# Altium schematic symbol library PowerSupplyGOST.SchLib: 11 symbols
Pins are listed as number, name and electrical type; pins without a type are passive.

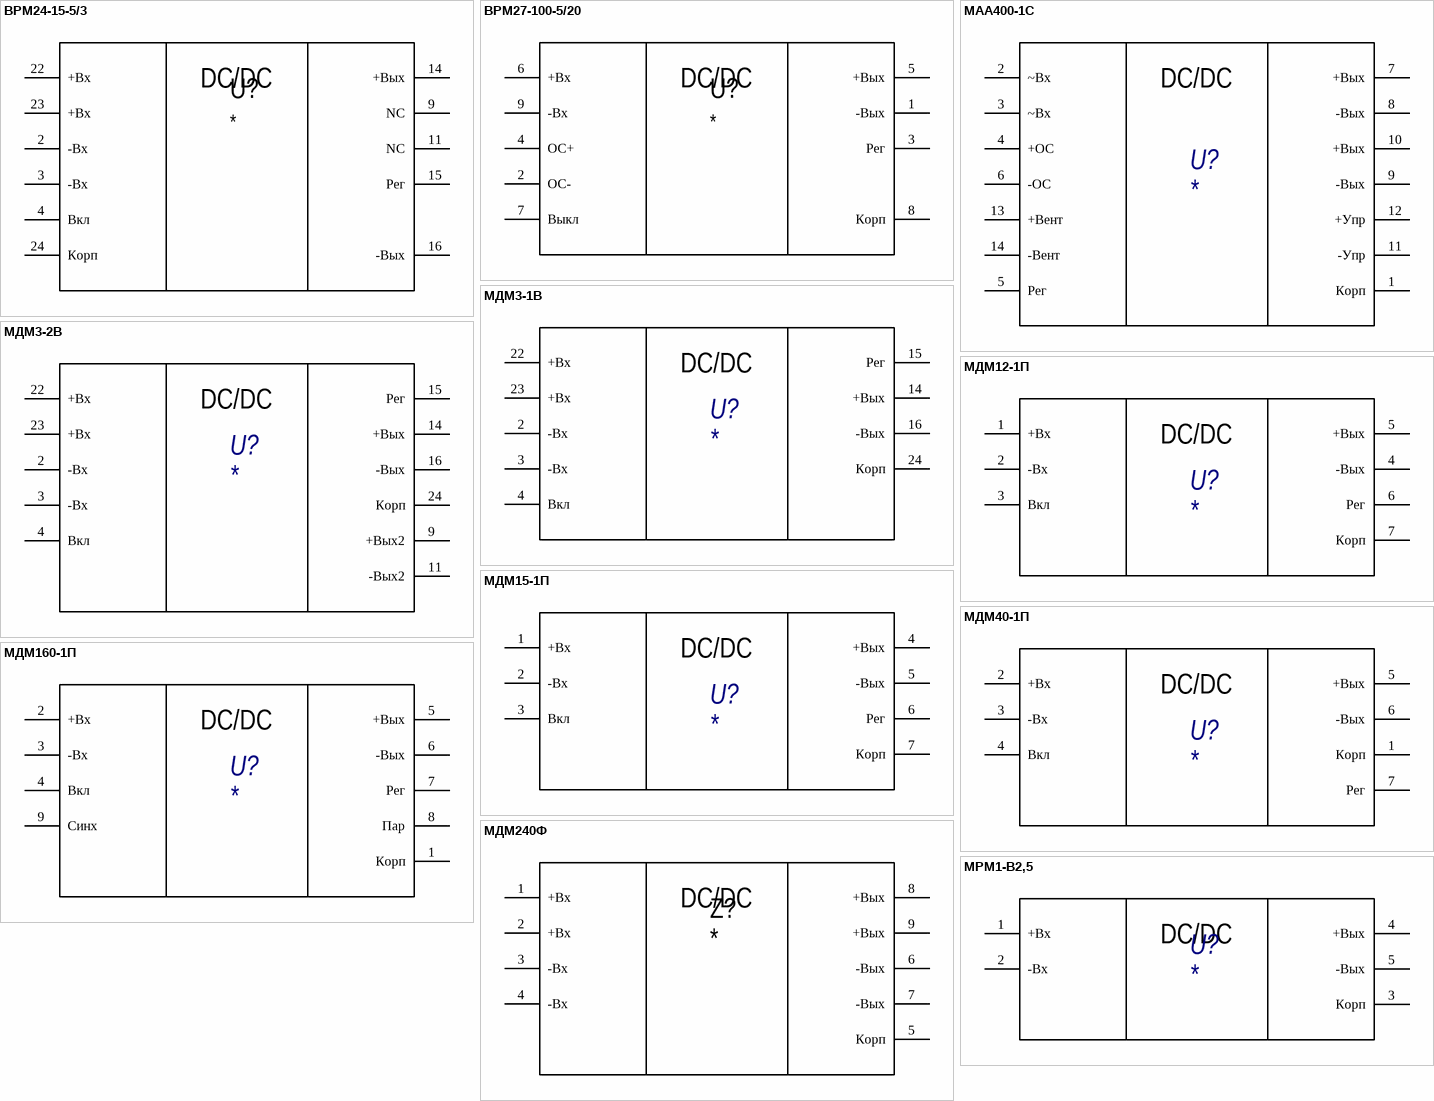
[diagram p0: symbols ВРМ24-15-5/3 to МРМ1-В2,5]

## ВРМ24-15-5/3
designator U?
pins: 2 -Вх, 3 -Вх, 4 Вкл, 9 NC, 11 NC, 14 +Вых, 15 Рег, 16 -Вых, 22 +Вх, 23 +Вх, 24 Корп
text: DC/DC

## ВРМ27-100-5/20
designator U?
pins: 1 -Вых, 2 ОС-, 3 Рег, 4 ОС+, 5 +Вых, 6 +Вх, 7 Выкл, 8 Корп, 9 -Вх
text: DC/DC

## МАА400-1С
designator U?
pins: 1 Корп, 2 ~Вх, 3 ~Вх, 4 +ОС, 5 Рег, 6 -ОС, 7 +Вых, 8 -Вых, 9 -Вых, 10 +Вых, 11 -Упр, 12 +Упр, 13 +Вент, 14 -Вент
text: DC/DC

## МДМ3-1В
designator U?
pins: 2 -Вх, 3 -Вх, 4 Вкл, 14 +Вых, 15 Рег, 16 -Вых, 22 +Вх, 23 +Вх, 24 Корп
text: DC/DC

## МДМ3-2В
designator U?
pins: 2 -Вх, 3 -Вх, 4 Вкл, 9 +Вых2, 11 -Вых2, 14 +Вых, 15 Рег, 16 -Вых, 22 +Вх, 23 +Вх, 24 Корп
text: DC/DC

## МДМ12-1П
designator U?
pins: 1 +Вх, 2 -Вх, 3 Вкл, 4 -Вых, 5 +Вых, 6 Рег, 7 Корп
text: DC/DC

## МДМ15-1П
designator U?
pins: 1 +Вх, 2 -Вх, 3 Вкл, 4 +Вых, 5 -Вых, 6 Рег, 7 Корп
text: DC/DC

## МДМ40-1П
designator U?
pins: 1 Корп, 2 +Вх, 3 -Вх, 4 Вкл, 5 +Вых, 6 -Вых, 7 Рег
text: DC/DC

## МДМ160-1П
designator U?
pins: 1 Корп, 2 +Вх, 3 -Вх, 4 Вкл, 5 +Вых, 6 -Вых, 7 Рег, 8 Пар, 9 Синх
text: DC/DC

## МДМ240Ф
designator Z?
pins: 1 +Вх, 2 +Вх, 3 -Вх, 4 -Вх, 5 Корп, 6 -Вых, 7 -Вых, 8 +Вых, 9 +Вых
text: DC/DC

## МРМ1-В2,5
designator U?
pins: 1 +Вх, 2 -Вх, 3 Корп, 4 +Вых, 5 -Вых
text: DC/DC